# EAGLE library part POTENTIOMETER-DUAL (library Potentiometers)
Potentiometer, dual
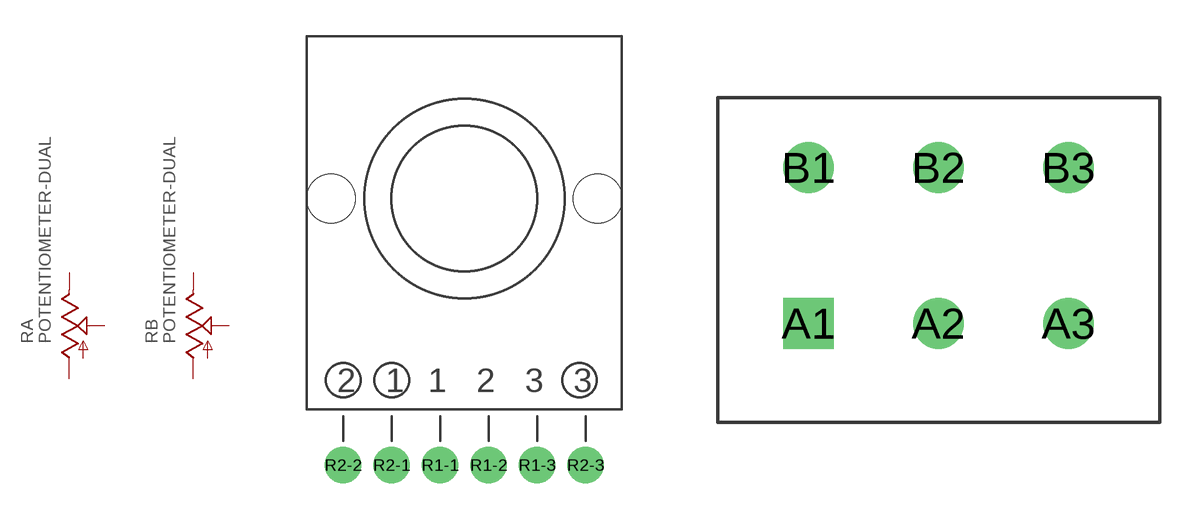
[diagram p0: symbol with the pads of POT-DUAL-TOP-11MM-ALPHA-317-2201F; footprints POT-DUAL-TOP-11MM-ALPHA-317-2201F, POT-DUAL-SIDE-ALPHA]

Designator prefix R; gates A=POTENTIOMETER B=POTENTIOMETER

## POTENTIOMETER-DUALPOT-DUAL-TOP-11MM-ALPHA-317-2201F  [POT-DUAL-TOP-11MM-ALPHA-317-2201F]
R1-1  A:1  pas
R1-2  A:2  pas
R1-3  A:3  pas
R2-1  B:1  pas
R2-2  B:2  pas
R2-3  B:3  pas

## POTENTIOMETER-DUALHORIZONTAL  [POT-DUAL-SIDE-ALPHA]
A1  A:1  pas
A2  A:2  pas
A3  A:3  pas
B1  B:1  pas
B2  B:2  pas
B3  B:3  pas

## Footprint POT-DUAL-TOP-11MM-ALPHA-317-2201F (pad centres in mm)
Alpha 317-2201F series top adjust dual linear potentiometer
drill 1 round: R1-1 -1,-11; R1-2 1,-11; R1-3 3,-11; R2-1 -3,-11; R2-2 -5,-11; R2-3 5,-11
hole 2 at 5.5,0
hole 2 at -5.5,0

## Footprint POT-DUAL-SIDE-ALPHA (pad centres in mm)
Potentiometer, dual, side adjust, 16mm, 1.3mm drill, 5mm lead spacing
drill 1.3 square: A1 -5,3.8
drill 1.3 round: A2 0,3.8; A3 5,3.8; B1 -5,9.8; B2 0,9.8; B3 5,9.8